# EAGLE library part LT6105 (library LT6105)
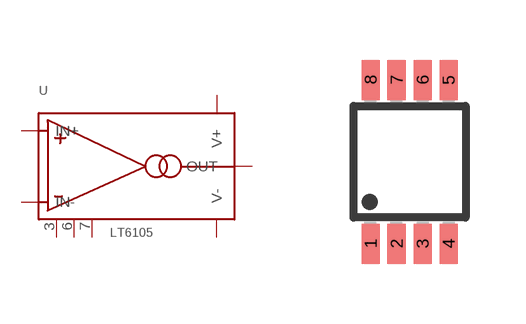
[diagram p0: symbol with the pads of MSOP8; footprint MSOP8]

Designator prefix -

## LT6105  [MSOP8]
1  IN-
2  V+
3  3
4  V-
5  OUT
6  P$7
7  P$8
8  IN+

## Footprint MSOP8 (pad centres in mm)
Micro Small Outline Package Grid .65mm
smd 0.45 x 1: 1 -0.975,-2.05; 2 -0.325,-2.05; 3 0.325,-2.05; 4 0.975,-2.05; 5 0.975,2.05; 6 0.325,2.05; 7 -0.325,2.05; 8 -0.975,2.05